# Altium footprint library Connectors.PcbLib: 13 footprints
Each footprint in its own frame and in the unit in brackets; x right, y up, seen from the top. Pads: shape width x height; smd on the part's side, far side on the other; paste and mask are expansions set on the pad; w line width, h text height; cw(c..) or ccw(c..) is an arc to the next point about the centre after c.
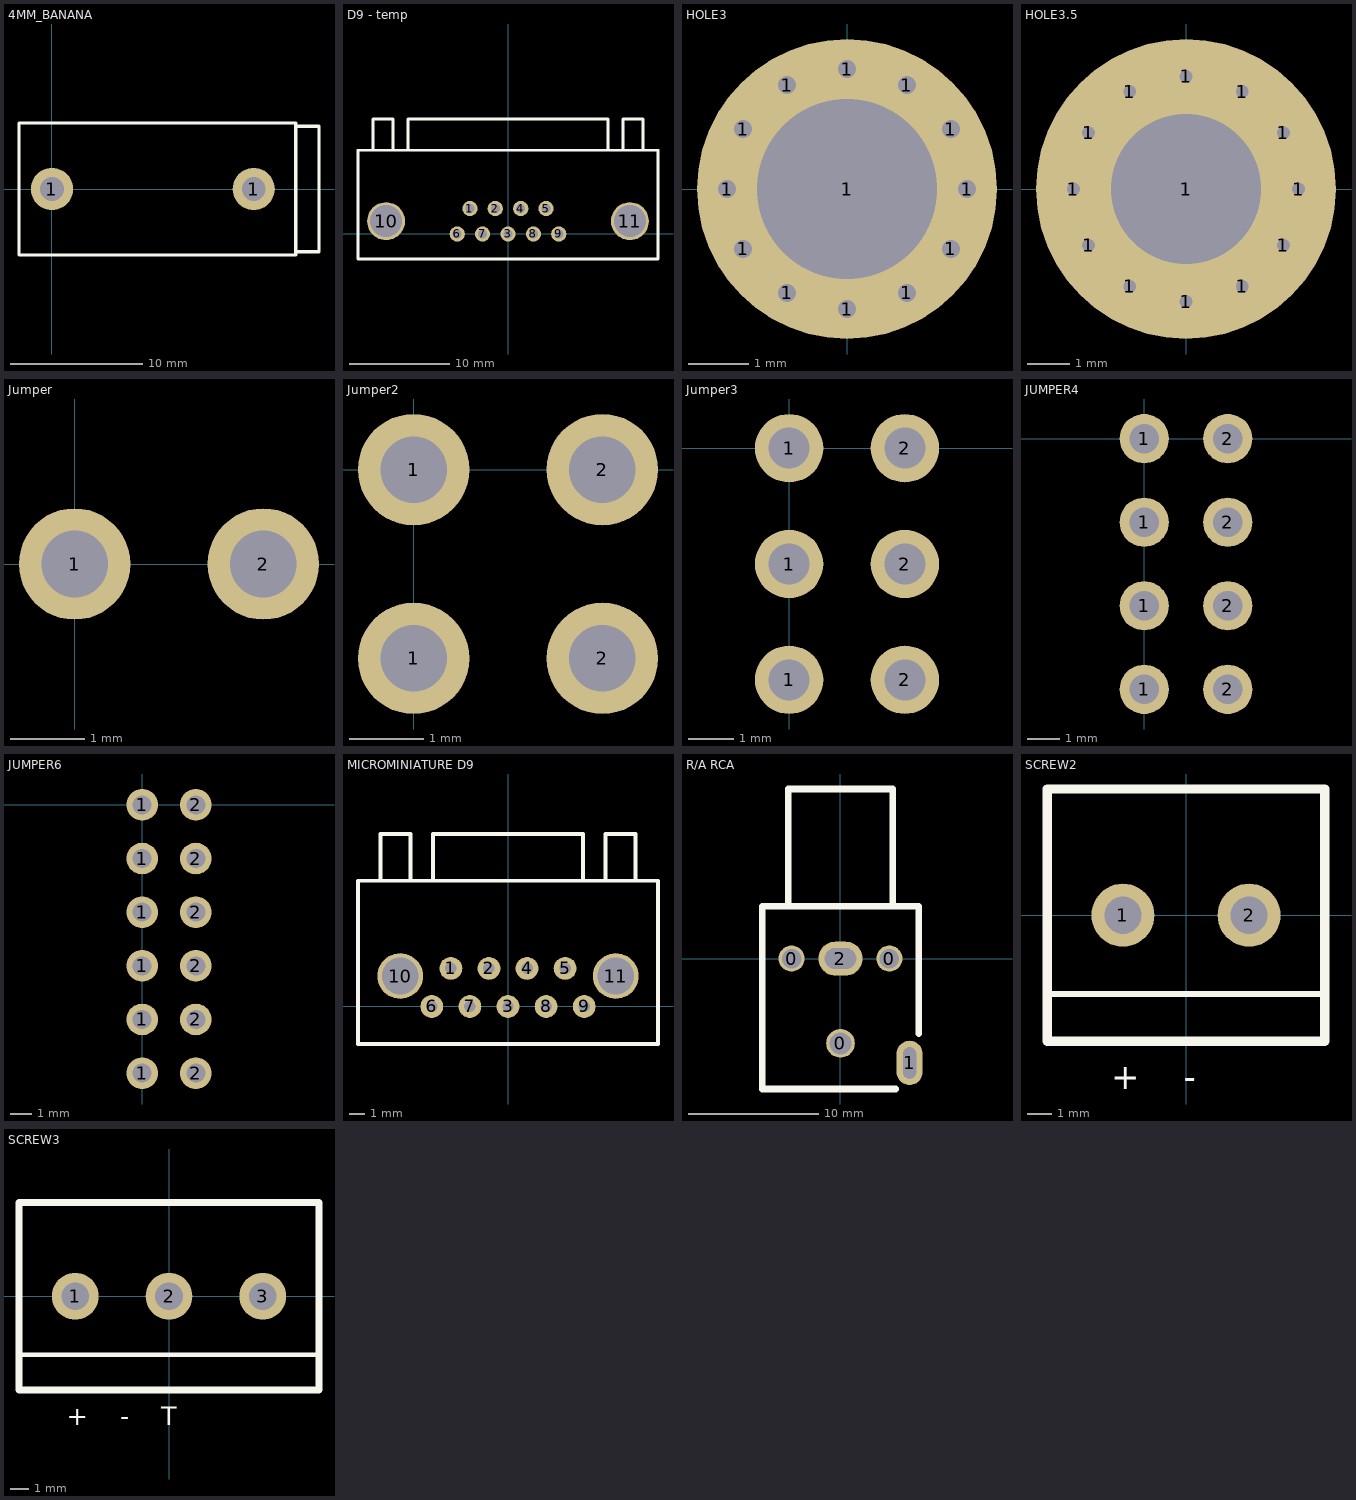
[diagram p0: the footprints below, top view; thin cyan lines are the x and y axes]

## 4MM_BANANA [mm] "DELTRON 571-0x00"
height 12.2
pads (2):
  round 3.2 hole 1.8: 1(0,0) 1(15.3,0)
Top Overlay:
  lines w0.254: 18.5,-4.75 20.25,-4.75 20.25,4.75 18.5,4.75 ; -2.5,-5 -2.5,5 17.5,5 18.5,5 18.5,-5 17.5,-5 -2.5,-5

## D9 - temp [mil] "GLENAIR MICRO-D9"
pads (11):
  round 60 hole 35.43: 1(-150,100) 2(-50,100) 3(0,0) 4(50,100) 5(150,100) 6(-200,0) 7(-100,0) 8(100,0) 9(200,0)
  round 149.61 hole 125.98: 10(-479.85,50.47) 11(479.85,50.47)
Top Overlay:
  lines w10: -531.5,330 -531.5,452.76 -452.76,452.76 -452.76,330 ; -393.7,330 -393.7,452.76 393.7,452.76 393.7,330 ; -334.65,330 0,330 ; 196.85,330 0,330 ; 334.65,330 0,330 ; 452.76,330 452.76,334.65 452.76,452.76 531.5,452.76 531.5,330 ; 0,330 590.55,330 590.55,-98.43 -570.87,-98.43 -590.55,-98.43 -590.55,330 0,330

## HOLE3 [mm]
pads (13):
  round 1 hole 0.3: 1(-2,0) 1(-1.732,-1) 1(-1.732,1) 1(-1,-1.732) 1(-1,1.732) 1(0,-2) 1(0,2) 1(1,-1.732) 1(1,1.732) 1(1.732,-1) 1(1.732,1) 1(2,0)
  round 5 hole 3: 1(0,0)

## HOLE3.5 [mm]
pads (13):
  round 1 hole 0.3: 1(-2.625,0) 1(-2.273,-1.312) 1(-2.273,1.312) 1(-1.312,2.273) 1(-1.312,-2.273) 1(0,-2.625) 1(0,2.625) 1(1.312,-2.273) 1(1.312,2.273) 1(2.273,-1.312) 1(2.273,1.312) 1(2.625,0)
  round 7 hole 3.5: 1(0,0)

## Jumper [mm] "Connector; Header; 2 Position"
pads (2):
  round 1.5 hole 0.9: 1(0,0) 2(2.54,0)

## Jumper2 [mm] "Connector; Header; 2 Position"
pads (4):
  round 1.5 hole 0.9: 1(0,-2.54) 1(0,0) 2(2.54,-2.54) 2(2.54,0)

## Jumper3 [mm] "Connector; Header; 2 Position"
pads (6):
  round 1.5 hole 0.9: 1(0,-5.08) 1(0,-2.54) 1(0,0) 2(2.54,-5.08) 2(2.54,-2.54) 2(2.54,0)

## JUMPER4 [mm] "Connector; Header; 2 Position"
pads (8):
  round 1.5 hole 0.9: 1(0,-7.62) 1(0,-5.08) 1(0,-2.54) 1(0,0) 2(2.54,-7.62) 2(2.54,-5.08) 2(2.54,-2.54) 2(2.54,0)

## JUMPER6 [mm] "Connector; Header; 2 Position"
pads (12):
  round 1.5 hole 0.9: 1(0,-12.7) 1(0,-10.16) 1(0,-7.62) 1(0,-5.08) 1(0,-2.54) 1(0,0) 2(2.54,-12.7) 2(2.54,-10.16) 2(2.54,-7.62) 2(2.54,-5.08) 2(2.54,-2.54) 2(2.54,0)

## MICROMINIATURE D9 [mil] "GLENAIR MICRO-D9"
pads (11):
  round 60 hole 30: 1(-150,100) 2(-50,100) 3(0,0) 4(50,100) 5(150,100) 6(-200,0) 7(-100,0) 8(100,0) 9(200,0)
  round 120 hole 96: 10(-283,80) 11(283,80)
Top Overlay:
  lines w10: -255.91,330 -255.91,452.76 -334.65,452.76 -334.65,330 0,330 ; -196.85,330 -196.85,452.76 196.85,452.76 196.85,330 0,330 ; 255.91,330 255.91,334.65 255.91,452.76 334.65,452.76 334.65,330 0,330 ; 0,330 393.7,330 393.7,-98.43 -393.7,-98.43 -393.7,78.74 -393.7,330 0,330

## R/A RCA [mm] "LUMBERG - WBTOR 1"
height 13
pads (5):
  round 2 hole 1.5: 0(-3.75,0) 0(3.75,0)
  round 2.2 hole 1.7: 0(0,-6.5)
  oval 2x3.4 hole 1 slot 2.4 at 90 deg: 1(5.3,-8)
  oval 3.4x2.6 hole 1.6 slot 2.4 at 0 deg: 2(0,0)
Top Overlay:
  lines w0.5: 4.25,-10 0,-10 -6,-10 -6,4 -4,4 ; 6,-5.75 6,4 4,4 ; -4,4 0,4 4,4 ; -4,4 -4,13 4,13 4,4

## SCREW2 [mm]
height 5
pads (2):
  round 2.54 hole 1.5: 1(-2.54,0) 2(2.54,0)
Top Overlay:
  lines w0.254: -5.588,-3.175 5.588,-3.175
  lines w0.381: -5.588,-5.08 -5.588,5.08 5.588,5.08 5.588,-5.08 0,-5.08 -5.588,-5.08
  text "+    -" at -3,-7 h1

## SCREW3 [mm]
height 5
pads (3):
  round 2.54 hole 1.5: 1(-5.08,0) 2(0,0) 3(5.08,0)
Top Overlay:
  lines w0.254: -8.128,-3.175 8.128,-3.175
  lines w0.381: -8.128,-5.08 -8.128,5.08 8.128,5.08 8.128,-5.08 -2.54,-5.08 -8.128,-5.08
  text "+    -    T" at -5.54,-7 h1